# EAGLE library part EEPROM_I2C_SOIC8_GENERIC (library YOUWASH_V0.1)
Note: The same pinout is used for many I2C EEPROMs in SOIC8(150mil) from a variety of manufacturers and in various sizes. Examples: 16K (2K x 8 Bit) I2C EEPROM 1.7-5.5V, 400KHz, -40°C-85°C Digikey: CAT24C16WI-GT3CT-ND 256K (32K x 8 Bit) I2C EEPROM 1.7-5.5V, 400KHz, -40°C-85°C Digikey: 24AA256-I/SN-ND
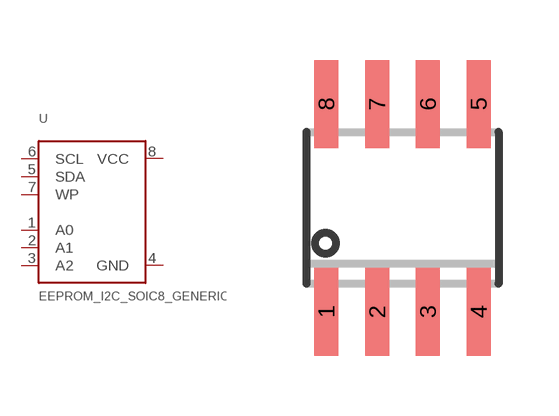
[diagram p7: symbol with the pads of SOIC8_150MIL; footprint SOIC8_150MIL]

Designator prefix U

## EEPROM_I2C_SOIC8_GENERIC  [SOIC8_150MIL]
1  A0  in
2  A1  in
3  A2  in
4  GND  pwr
5  SDA
6  SCL  in
7  WP  in
8  VCC  pwr

## Footprint SOIC8_150MIL (pad centres in mm)
Small Outline IC - 150mil Wide
smd 0.6 x 2.2: 1 -1.905,-2.6; 2 -0.635,-2.6; 3 0.635,-2.6; 4 1.905,-2.6; 5 1.905,2.6; 6 0.635,2.6; 7 -0.635,2.6; 8 -1.905,2.6